# EAGLE library part LTC1700 (library IC)
No Rsense Synchronous Step-Up DC/DC Controller http://www.datasheetcatalog.org/datasheet/lineartechnology/1700f.pdf
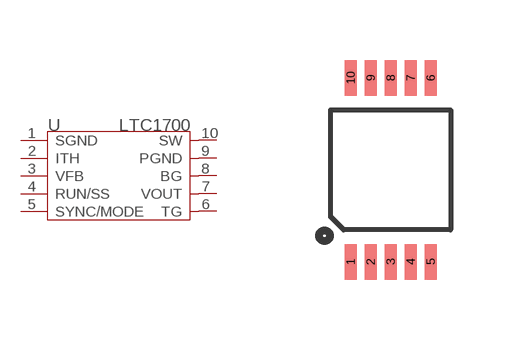
[diagram p21: symbol with the pads of MSOP10; footprint MSOP10]

Designator prefix U

## LTC1700-MSOP10  [MSOP10]
1  SGND
2  ITH
3  VFB
4  RUN/SS
5  SYNC/MODE
6  TG
7  VOUT
8  BG
9  PGND
10  SW

## Footprint MSOP10 (pad centres in mm)
smd 0.305 x 0.889: 1 -1,-2.3; 2 -0.5,-2.3; 3 0,-2.3; 4 0.5,-2.3; 5 1,-2.3; 6 1,2.3; 7 0.5,2.3; 8 0,2.3; 9 -0.5,2.3; 10 -1,2.3